# Altium footprint library BM03B-GHS-TBT(LF)(SN)(N).PcbLib: 1 footprints
Each footprint in its own frame and in the unit in brackets; x right, y up, seen from the top. Pads: shape width x height; smd on the part's side, far side on the other; paste and mask are expansions set on the pad; w line width, h text height; cw(c..) or ccw(c..) is an arc to the next point about the centre after c.
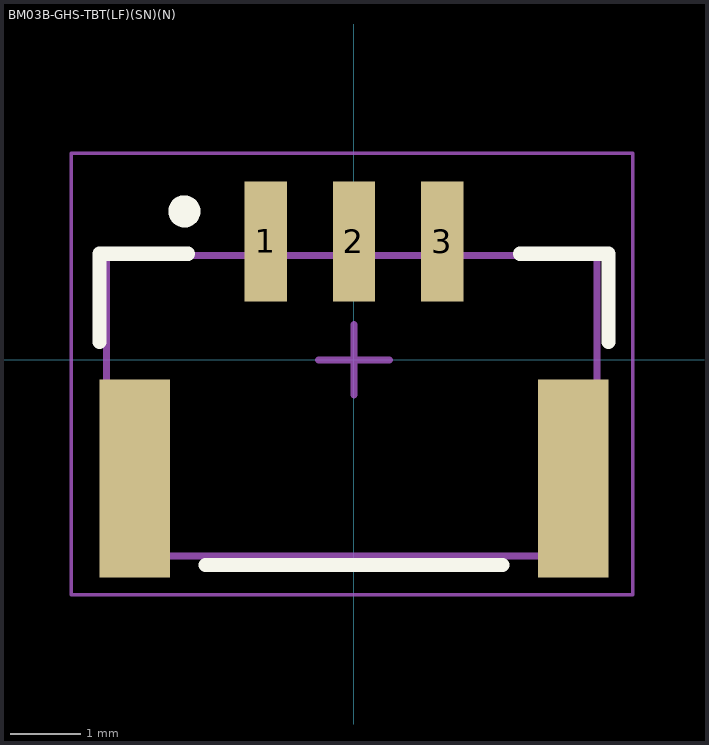
[diagram p0: the footprint, top view; thin cyan lines are the x and y axes]

## BM03B-GHS-TBT(LF)(SN)(N) [mm]
pads (5):
  rect 0.6x1.7 smd: 1(-1.25,1.675) 2(0,1.675) 3(1.25,1.675)
  rect 1x2.8 smd: ""(-3.1,-1.675) ""(3.1,-1.675)
Top Overlay:
  circle w0.254: c-2.4,2.1 r0.1
  lines w0.2: -3.6,0.25 -3.6,1.5 -2.35,1.5 ; -2.1,-2.9 2.1,-2.9 ; 2.35,1.5 3.6,1.5 3.6,0.25
Mechanical 1:
  lines w0.1: -3.5,-2.775 3.434,-2.775 3.434,1.475 -3.5,1.475 -3.5,-2.775
  text ".Designator" at -3.374,-1.383 h0.65
Mechanical 2:
  lines w0.05: -4,-3.325 3.942,-3.325 3.942,2.925 -4,2.925 -4,-3.325
  lines w0.1: -0.5,0 0.5,0 ; 0,-0.5 0,0.5
3D body "BM03B-GHS-TBT.STEP": height 4.18, standoff -0.03, extent -3.53,-2.83 3.47,2.12